# EAGLE library part GE864 (library geoffculp)
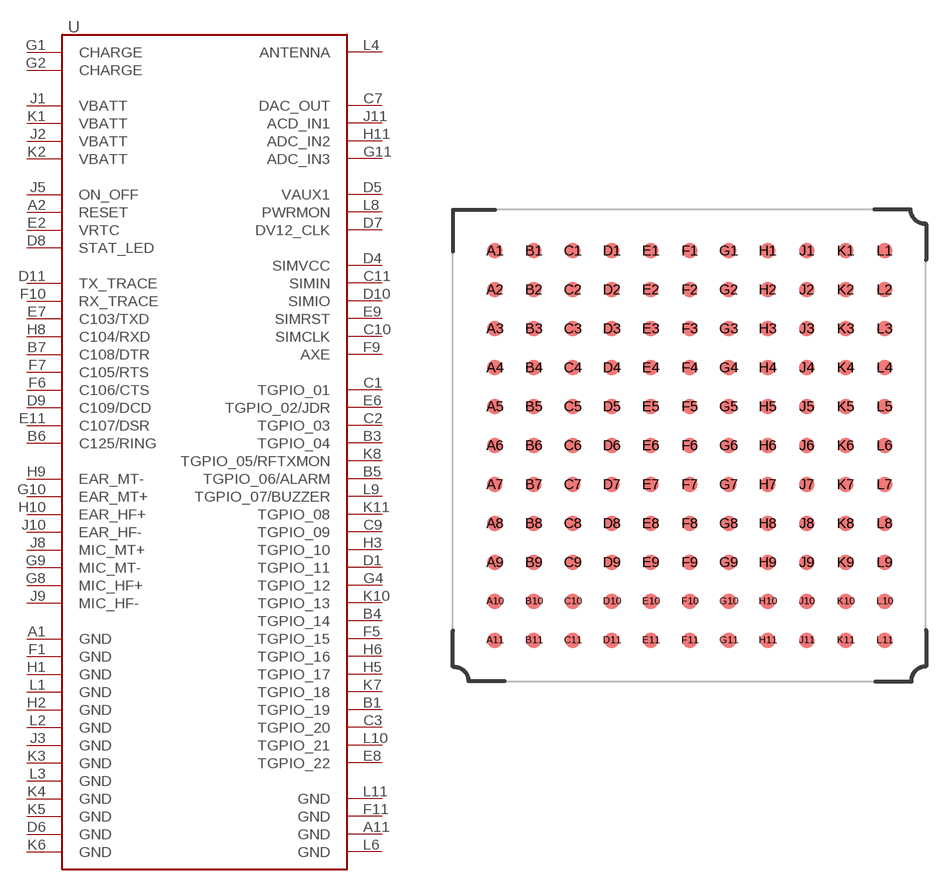
[diagram p197: symbol with the pads of GE864; footprint GE864]

Designator prefix -

## GE864  [GE864]
A1  GND
A2  RESET
A11  GND
B1  TGPIO_19
B3  TGPIO_04
B4  TGPIO_14
B5  TGPIO_06/ALARM
B6  C125/RING
B7  C108/DTR
C1  TGPIO_01
C2  TGPIO_03
C3  TGPIO_20
C7  DAC_OUT
C9  TGPIO_09
C10  SIMCLK
C11  SIMIN
D1  TGPIO_11
D4  SIMVCC
D5  VAUX1
D6  GND
D7  DV12_CLK
D8  STAT_LED
D9  C109/DCD
D10  SIMIO
D11  TX_TRACE
E2  VRTC
E6  TGPIO_02/JDR
E7  C103/TXD
E8  TGPIO_22
E9  SIMRST
E11  C107/DSR
F1  GND
F5  TGPIO_15
F6  C106/CTS
F7  C105/RTS
F9  AXE
F10  RX_TRACE
F11  GND
G1  CHARGE
G2  CHARGE
G4  TGPIO_12
G8  MIC_HF+
G9  MIC_MT-
G10  EAR_MT+
G11  ADC_IN3
H1  GND
H2  GND
H3  TGPIO_10
H5  TGPIO_17
H6  TGPIO_16
H8  C104/RXD
H9  EAR_MT-
H10  EAR_HF+
H11  ADC_IN2
J1  VBATT
J2  VBATT
J3  GND
J5  ON_OFF
J8  MIC_MT+
J9  MIC_HF-
J10  EAR_HF-
J11  ACD_IN1
K1  VBATT
K2  VBATT
K3  GND
K4  GND
K5  GND
K6  GND
K7  TGPIO_18
K8  TGPIO_05/RFTXMON
K10  TGPIO_13
K11  TGPIO_08
L1  GND
L2  GND
L3  GND
L4  ANTENNA
L6  GND
L8  PWRMON
L9  TGPIO_07/BUZZER
L10  TGPIO_21
L11  GND

## Footprint GE864 (pad centres in mm)
smd 1 x 1: A1 0,25; A2 0,22.5; A3 0,20; A4 0,17.5; A5 0,15; A6 0,12.5; A7 0,10; A8 0,7.5; A9 0,5; A10 0,2.5; A11 0,0; B1 2.5,25; B2 2.5,22.5; B3 2.5,20; B4 2.5,17.5; B5 2.5,15; B6 2.5,12.5; B7 2.5,10; B8 2.5,7.5; B9 2.5,5; B10 2.5,2.5; B11 2.5,0; C1 5,25; C2 5,22.5; C3 5,20; C4 5,17.5; C5 5,15; C6 5,12.5; C7 5,10; C8 5,7.5; C9 5,5; C10 5,2.5; C11 5,0; D1 7.5,25; D2 7.5,22.5; D3 7.5,20; D4 7.5,17.5; D5 7.5,15; D6 7.5,12.5; D7 7.5,10; D8 7.5,7.5; D9 7.5,5; D10 7.5,2.5; D11 7.5,0; E1 10,25; E2 10,22.5; E3 10,20; E4 10,17.5; E5 10,15; E6 10,12.5; E7 10,10; E8 10,7.5; E9 10,5; E10 10,2.5; E11 10,0; F1 12.5,25; F2 12.5,22.5; F3 12.5,20; F4 12.5,17.5; F5 12.5,15; F6 12.5,12.5; F7 12.5,10; F8 12.5,7.5; F9 12.5,5; F10 12.5,2.5; F11 12.5,0; G1 15,25; G2 15,22.5; G3 15,20; G4 15,17.5; G5 15,15; G6 15,12.5; G7 15,10; G8 15,7.5; G9 15,5; G10 15,2.5; G11 15,0; H1 17.5,25; H2 17.5,22.5; H3 17.5,20; H4 17.5,17.5; H5 17.5,15; H6 17.5,12.5; H7 17.5,10; H8 17.5,7.5; H9 17.5,5; H10 17.5,2.5; H11 17.5,0; J1 20,25; J2 20,22.5; J3 20,20; J4 20,17.5; J5 20,15; J6 20,12.5; J7 20,10; J8 20,7.5; J9 20,5; J10 20,2.5; J11 20,0; K1 22.5,25; K2 22.5,22.5; K3 22.5,20; K4 22.5,17.5; K5 22.5,15; K6 22.5,12.5; K7 22.5,10; K8 22.5,7.5; K9 22.5,5; K10 22.5,2.5; K11 22.5,0; L1 25,25; L2 25,22.5; L3 25,20; L4 25,17.5; L5 25,15; L6 25,12.5; L7 25,10; L8 25,7.5; L9 25,5; L10 25,2.5; L11 25,0